# EAGLE library part _BASE-ATMEGA2560_ (library KoalaBase)
Atmega 2560 Microcontroller with features described in: http://www.atmel.com/Images/Atmel-2549-8-bit-AVR-Microcontroller-ATmega640-1280-1281-2560-2561_datasheet.pdf
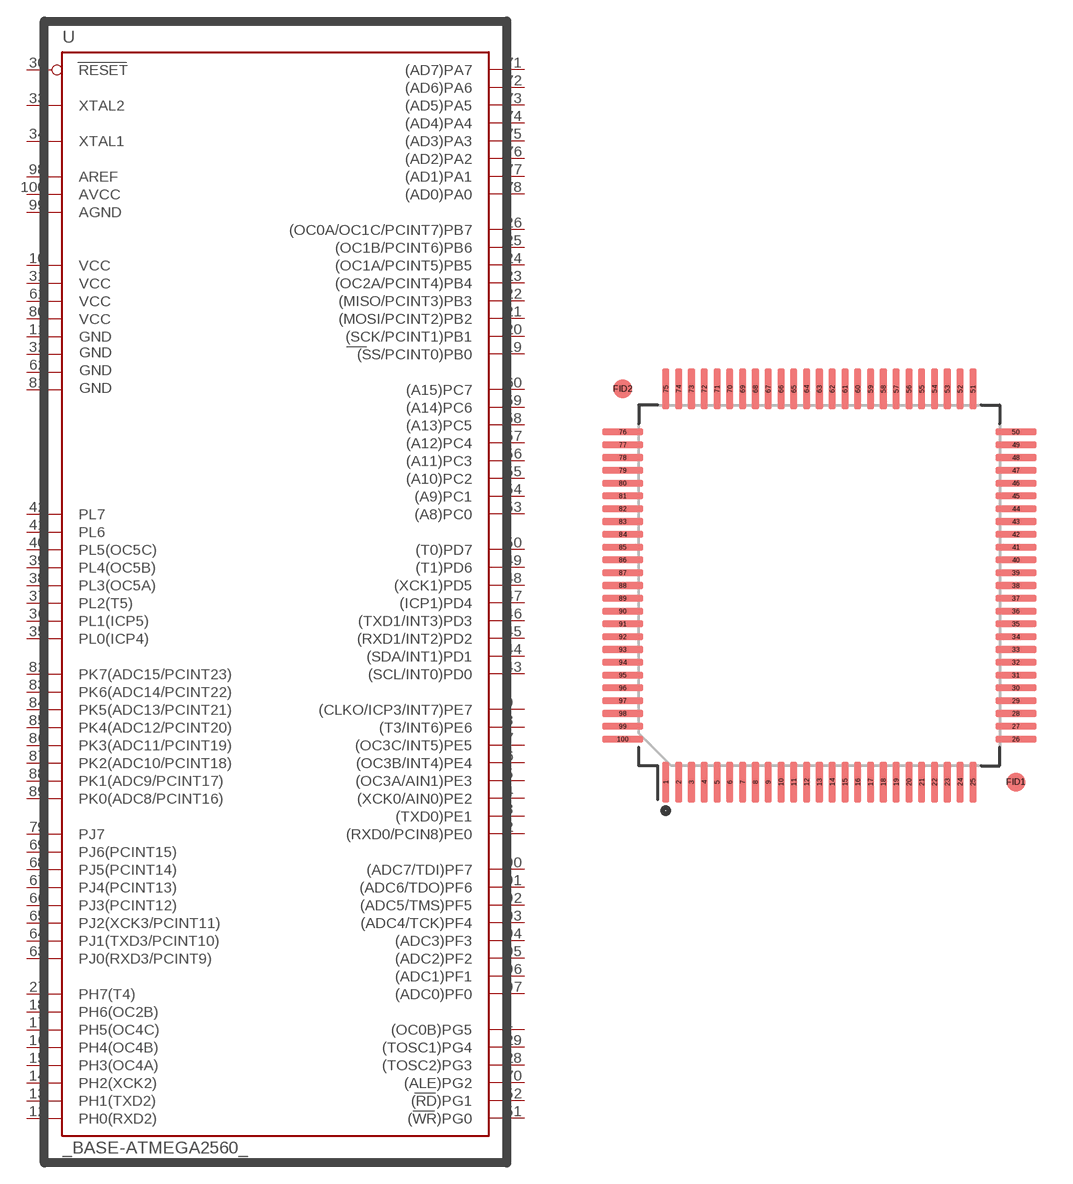
[diagram p2: symbol with the pads of QFP50P1600X1600X120-100L30_HS; footprint QFP50P1600X1600X120-100L30_HS]

Designator prefix U

## _BASE-ATMEGA2560_SMD-TQFP100+2  [QFP50P1600X1600X120-100L30_HS]
1  (OC0B)PG5
2  (RXD0/PCIN8)PE0
3  (TXD0)PE1
4  (XCK0/AIN0)PE2
5  (OC3A/AIN1)PE3
6  (OC3B/INT4)PE4
7  (OC3C/INT5)PE5
8  (T3/INT6)PE6
9  (CLKO/ICP3/INT7)PE7
10  VCC  pwr
11  GND  pwr
12  PH0(RXD2)
13  PH1(TXD2)
14  PH2(XCK2)
15  PH3(OC4A)
16  PH4(OC4B)
17  PH5(OC4C)
18  PH6(OC2B)
19  (SS/PCINT0)PB0
20  (SCK/PCINT1)PB1
21  (MOSI/PCINT2)PB2
22  (MISO/PCINT3)PB3
23  (OC2A/PCINT4)PB4
24  (OC1A/PCINT5)PB5
25  (OC1B/PCINT6)PB6
26  (OC0A/OC1C/PCINT7)PB7
27  PH7(T4)
28  (TOSC2)PG3
29  (TOSC1)PG4
30  RESET  in
31  VCC1  pwr
32  GND1  pwr
33  XTAL2  out
34  XTAL1  in
35  PL0(ICP4)
36  PL1(ICP5)
37  PL2(T5)
38  PL3(OC5A)
39  PL4(OC5B)
40  PL5(OC5C)
41  PL6
42  PL7
43  (SCL/INT0)PD0
44  (SDA/INT1)PD1
45  (RXD1/INT2)PD2
46  (TXD1/INT3)PD3
47  (ICP1)PD4
48  (XCK1)PD5
49  (T1)PD6
50  (T0)PD7
51  (WR)PG0
52  (RD)PG1
53  (A8)PC0
54  (A9)PC1
55  (A10)PC2
56  (A11)PC3
57  (A12)PC4
58  (A13)PC5
59  (A14)PC6
60  (A15)PC7
61  VCC2  pwr
62  GND2  pwr
63  PJ0(RXD3/PCINT9)
64  PJ1(TXD3/PCINT10)
65  PJ2(XCK3/PCINT11)
66  PJ3(PCINT12)
67  PJ4(PCINT13)
68  PJ5(PCINT14)
69  PJ6(PCINT15)
70  (ALE)PG2
71  (AD7)PA7
72  (AD6)PA6
73  (AD5)PA5
74  (AD4)PA4
75  (AD3)PA3
76  (AD2)PA2
77  (AD1)PA1
78  (AD0)PA0
79  PJ7
80  VCC3  pwr
81  GND3  pwr
82  PK7(ADC15/PCINT23)
83  PK6(ADC14/PCINT22)
84  PK5(ADC13/PCINT21)
85  PK4(ADC12/PCINT20)
86  PK3(ADC11/PCINT19)
87  PK2(ADC10/PCINT18)
88  PK1(ADC9/PCINT17)
89  PK0(ADC8/PCINT16)
90  (ADC7/TDI)PF7
91  (ADC6/TDO)PF6
92  (ADC5/TMS)PF5
93  (ADC4/TCK)PF4
94  (ADC3)PF3
95  (ADC2)PF2
96  (ADC1)PF1
97  (ADC0)PF0
98  AREF
99  AGND  pwr
100  AVCC  pwr

## Footprint QFP50P1600X1600X120-100L30_HS (pad centres in mm)
Quad Flat Pack (QFP), 0.50 mm pitch; square, 25 pin X 25 pin, 14.00 mm L X 14.00 mm W X 1.20 mm H body PCB Libraries Packages
smd 0.28 x 1.6: 1 -6,-7.68; 2 -5.5,-7.68; 3 -5,-7.68; 4 -4.5,-7.68; 5 -4,-7.68; 6 -3.5,-7.68; 7 -3,-7.68; 8 -2.5,-7.68; 9 -2,-7.68; 10 -1.5,-7.68; 11 -1,-7.68; 12 -0.5,-7.68; 13 0,-7.68; 14 0.5,-7.68; 15 1,-7.68; 16 1.5,-7.68; 17 2,-7.68; 18 2.5,-7.68; 19 3,-7.68; 20 3.5,-7.68; 21 4,-7.68; 22 4.5,-7.68; 23 5,-7.68; 24 5.5,-7.68; 25 6,-7.68; 51 6,7.68; 52 5.5,7.68; 53 5,7.68; 54 4.5,7.68; 55 4,7.68; 56 3.5,7.68; 57 3,7.68; 58 2.5,7.68; 59 2,7.68; 60 1.5,7.68; 61 1,7.68; 62 0.5,7.68; 63 0,7.68; 64 -0.5,7.68; 65 -1,7.68; 66 -1.5,7.68; 67 -2,7.68; 68 -2.5,7.68; 69 -3,7.68; 70 -3.5,7.68; 71 -4,7.68; 72 -4.5,7.68; 73 -5,7.68; 74 -5.5,7.68; 75 -6,7.68
smd 1.6 x 0.28: 26 7.68,-6; 27 7.68,-5.5; 28 7.68,-5; 29 7.68,-4.5; 30 7.68,-4; 31 7.68,-3.5; 32 7.68,-3; 33 7.68,-2.5; 34 7.68,-2; 35 7.68,-1.5; 36 7.68,-1; 37 7.68,-0.5; 38 7.68,0; 39 7.68,0.5; 40 7.68,1; 41 7.68,1.5; 42 7.68,2; 43 7.68,2.5; 44 7.68,3; 45 7.68,3.5; 46 7.68,4; 47 7.68,4.5; 48 7.68,5; 49 7.68,5.5; 50 7.68,6; 76 -7.68,6; 77 -7.68,5.5; 78 -7.68,5; 79 -7.68,4.5; 80 -7.68,4; 81 -7.68,3.5; 82 -7.68,3; 83 -7.68,2.5; 84 -7.68,2; 85 -7.68,1.5; 86 -7.68,1; 87 -7.68,0.5; 88 -7.68,0; 89 -7.68,-0.5; 90 -7.68,-1; 91 -7.68,-1.5; 92 -7.68,-2; 93 -7.68,-2.5; 94 -7.68,-3; 95 -7.68,-3.5; 96 -7.68,-4; 97 -7.68,-4.5; 98 -7.68,-5; 99 -7.68,-5.5; 100 -7.68,-6
smd 0.75 x 0.75: FID1 7.68,-7.68; FID2 -7.68,7.68